# EAGLE library part ADF4002BCP (library analog-devices)
Phase Detector Frequency Synthesizer
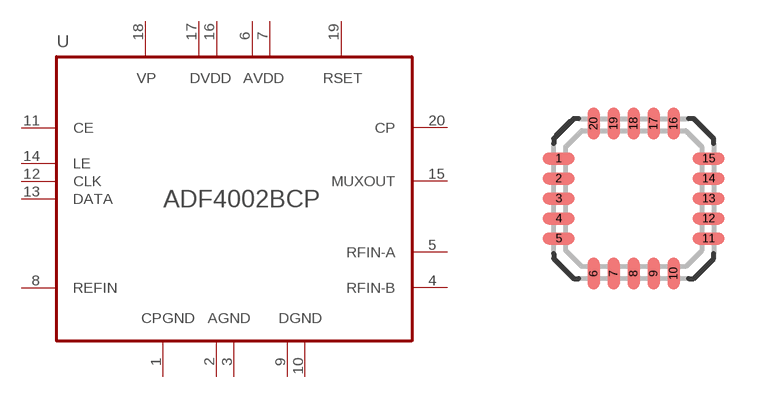
[diagram p55: symbol with the pads of LFCSP20_VQ; footprint LFCSP20_VQ]

Designator prefix U

## ADF4002BCP  [LFCSP20_VQ]
1  CPGND  pwr
2  AGND  pwr
3  AGND  pwr
4  RFIN-B  in
5  RFIN-A  in
6  AVDD  pwr
7  AVDD  pwr
8  REFIN  in
9  DGND  pwr
10  DGND  pwr
11  CE  in
12  CLK  in
13  DATA  in
14  LE  in
15  MUXOUT  out
16  DVDD  pwr
17  DVDD  pwr
18  VP  pwr
19  RSET  pas
20  CP  in

## Footprint LFCSP20_VQ (pad centres in mm)
LFCSP_VQ 20 4 mm × 4 mm Body, Very Thin Quad
smd 0.8 x 0.3: 1 -1.875,1; 2 -1.875,0.5; 3 -1.875,0; 4 -1.875,-0.5; 5 -1.875,-1; 11 1.875,-1; 12 1.875,-0.5; 13 1.875,0; 14 1.875,0.5; 15 1.875,1
smd 0.3 x 0.8: 6 -1,-1.875; 7 -0.5,-1.875; 8 0,-1.875; 9 0.5,-1.875; 10 1,-1.875; 16 1,1.875; 17 0.5,1.875; 18 0,1.875; 19 -0.5,1.875; 20 -1,1.875